# Altium schematic symbol library ic_pmic.SchLib: 9 symbols
Pins are listed as number, name and electrical type; pins without a type are passive.

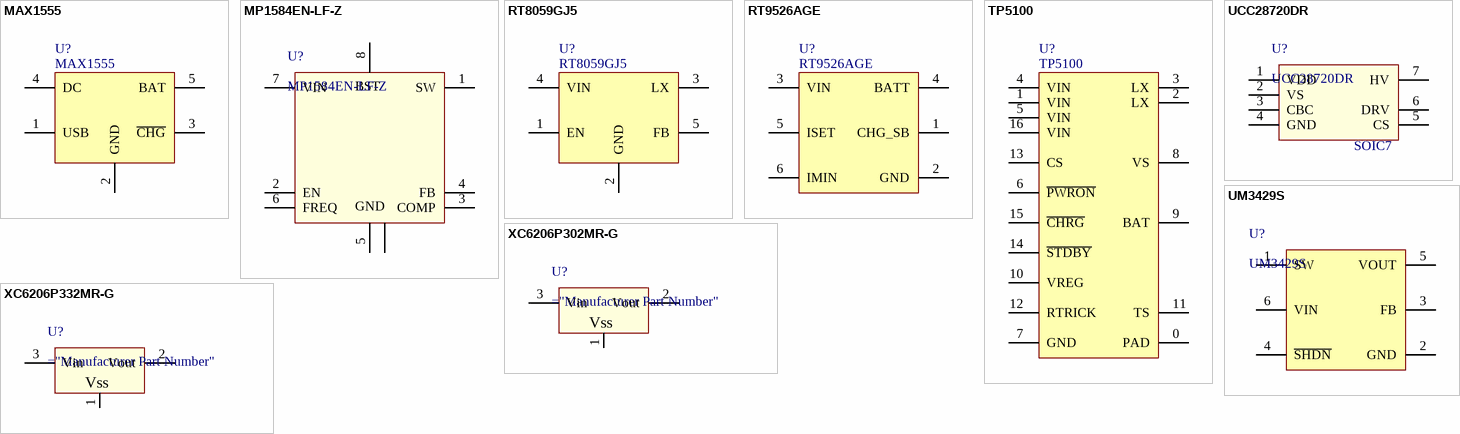
[diagram p0: symbols MAX1555 to XC6206P332MR-G]

## MAX1555
designator U?
IC BATT CHARGR LI+ 1CELL SOT23-5; PACKAGE: SOT23-5; TYPE: SMD
footprint SOT-23-5 (SOT23, 5-Leads, Body 3.0x3.0mm (max), Pitch 0.95mm, IPC Medium Density)
pins: 1 USB, 2 GND, 3 ~{CHG}, 4 DC, 5 BAT

## MP1584EN-LF-Z
designator U?
IC REG BUCK ADJUSTABLE 3A 8SOIC; PART NO: UCC28720DR; BRAND: TI; STOCK CODE: 296-41058-1-ND; SUPPLIER: Digi-Key; TYPE: SMD; PACKAGE: SOIC7
footprint SOIC-8 EP (SOIC, 8-Leads, Body 5.0x4.0mm (max), Pitch 1.27mm, IPC Medium Density)
pins: 1 SW, 2 EN, 3 COMP, 4 FB, 5 GND, 6 FREQ, 7 VIN, 8 BST, 9 PAD

## RT8059GJ5
designator U?
IC REG BUCK ADJ 1A SYNC TSOT23-5; PACKAGE: SOT23-5; TYPE: SMD
footprint SOT-23-5 (SOT23, 5-Leads, Body 3.0x3.0mm (max), Pitch 0.95mm, IPC Medium Density)
pins: 1 EN, 2 GND, 3 LX, 4 VIN, 5 FB

## RT9526AGE
designator U?
IC BATTERY CHARGER SOT-23-6; PACKAGE: SOT-23-6; TYPE: SMD
footprint SOT-23-6 (SOT23, 6-Leads, Body 3.0x3.0mm (max), Pitch 0.95mm, IPC Medium Density)
pins: 1 CHG_SB, 2 GND, 3 VIN, 4 BATT, 5 ISET, 6 IMIN

## TP5100
designator U?
2A-switch buck 8.4V / 4.2V rechargeable lithium battery; PACKAGE: QFN16; TYPE: SMD
footprint QFN-16
footprint QFN-16L
pins: 0 PAD, 1 VIN, 2 LX, 3 LX, 4 VIN, 5 VIN, 6 ~{PWRON}, 7 GND, 8 VS, 9 BAT, 10 VREG, 11 TS, 12 RTRICK, 13 CS, 14 ~{STDBY}, 15 ~{CHRG}, 16 VIN

## UCC28720DR
designator U?  PACKAGE: SOIC7
Converter Offline Flyback Topology 650Hz ~ 80kHz 7-SOIC; BRAND: TI; PART NO: UCC28720DR; STOCK CODE: 296-41058-1-ND; SUPPLIER: Digi-Key; TYPE: SMD
footprint SOIC-7 (SOIC, 8-Leads, Body 5.0x4.0mm (max), Pitch 1.27mm, IPC Medium Density)
pins: 1 VDD "VDD is the bias supply input pin to the controller. A carefully-placed bypass capacitor to GND is required on this pin.", 2 VS "Voltage sense is an input used to provide voltage and timing feedback to the controller.", 3 CBC "Cable compensation is a programming pin for compensation of cable voltage drop. Cable compensation is programmed with a resistor to GND.", 4 GND "The ground pin is both the reference pin for the controller and the low-side return for the drive output.", 5 CS "Current sense input connects to a ground-referenced current-sense resistor in series with the power switch.", 6 DRV "Drive is an output used to drive the base of an external high voltage NPN transistor.", 7 HV "The high-voltage pin connects directly to the rectified bulk voltage and provides charge to the VDD capacitor for start-up of the power supply."

## UM3429S
designator U?
600mA, 1MHz, Synchronous Step-Up DC-DC Converter; BRAND: UNION; PACKAGE: SOT23-6; PART NO: UM3429S; TYPE: SMD
footprint SOT-23-6/UM3429S (SOT23, 6-Leads, Body 3.0x3.0mm (max), Pitch 0.95mm, IPC Medium Density)
pins: 1 SW "Switch Pin", 2 GND "Ground", 3 FB "Feedback Input Pin.", 4 ~{SHDN} "Logic Controlled Shutdown Input", 5 VOUT "Output Voltage Sense Input and Drain of the Internal", 6 VIN "Battery Input Voltage"

## XC6206P302MR-G
designator U?
LDO Voltage Regulators 1uA Low Quiescent 3 Terminal, Low ESR Cap. Compatible, Voltage Regulator; Brand: Torex Semiconductor; Package: SOT-23-3; Type: SMD
footprint SOT-23 (SOT23, 3-Leads, Body 3.0x2.5mm (max), Pitch 0.95mm, IPC Medium Density)
pins: 1 VSS, 2 Vout, 3 Vin (power)
text: Vss

## XC6206P332MR-G
designator U?
LDO Voltage Regulators 1uA Low Quiescent 3 Terminal, Low ESR Cap. Compatible, Voltage Regulator; Brand: Torex Semiconductor; Package: SOT-23-3; Type: SMD
footprint SOT-23
pins: 1 VSS, 2 Vout, 3 Vin (power)
text: Vss